# EAGLE library part 74HC595 (library bytewerk-logic)
8bit shift register
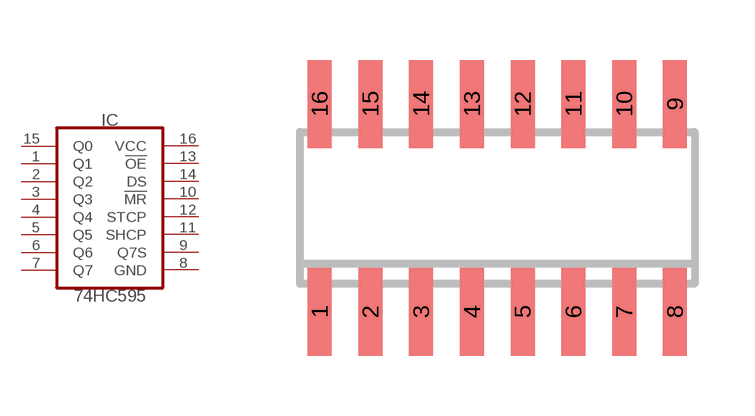
[diagram p2: symbol with the pads of SO16; footprint SO16]

Designator prefix IC

## 74HC595  [SO16]
1  Q1  oc
2  Q2  oc
3  Q3  oc
4  Q4  oc
5  Q5  oc
6  Q6  oc
7  Q7  oc
8  GND  pwr
9  Q7S  out
10  !MR!  in
11  SHCP  in
12  STCP  in
13  !OE!  in
14  DS  in
15  Q0  oc
16  VCC  pwr

## Footprint SO16 (pad centres in mm)
SMALL OUTLINE INTEGRATED CIRCUIT body 3.9 mm/JEDEC MS-012AC
smd 0.6 x 2.2: 1 -4.445,-2.6; 2 -3.175,-2.6; 3 -1.905,-2.6; 4 -0.635,-2.6; 5 0.635,-2.6; 6 1.905,-2.6; 7 3.175,-2.6; 8 4.445,-2.6; 9 4.445,2.6; 10 3.175,2.6; 11 1.905,2.6; 12 0.635,2.6; 13 -0.635,2.6; 14 -1.905,2.6; 15 -3.175,2.6; 16 -4.445,2.6